# Altium footprint library RESC6331X70N.PcbLib: 1 footprints
Each footprint in its own frame and in the unit in brackets; x right, y up, seen from the top. Pads: shape width x height; smd on the part's side, far side on the other; paste and mask are expansions set on the pad; w line width, h text height; cw(c..) or ccw(c..) is an arc to the next point about the centre after c.
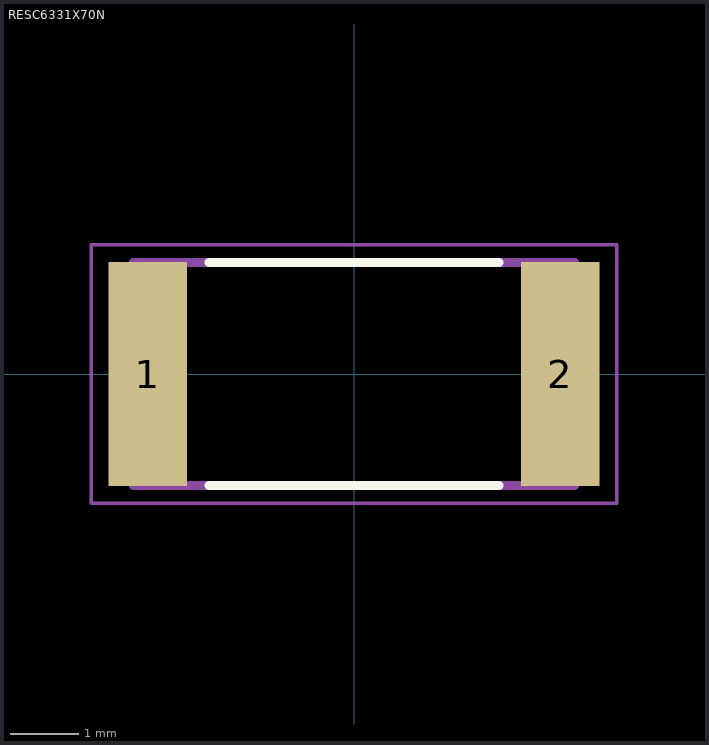
[diagram p0: the footprint, top view; thin cyan lines are the x and y axes]

## RESC6331X70N [mm]
pads (2):
  rect 1.15x3.27 smd: 1(-3.013,0) 2(3.013,0)
Top Overlay:
  lines w0.127: -2.12,-1.63 2.12,-1.63 ; -2.12,1.63 2.12,1.63
Mechanical 13:
  lines w0.127: -3.22,-1.63 3.22,-1.63 3.22,1.63 -3.22,1.63 -3.22,-1.63
Mechanical 15:
  lines w0.05: -3.84,-1.885 3.84,-1.885 3.84,1.885 -3.84,1.885 -3.84,-1.885